# Altium schematic symbol library SM-LP-5001.SchLib: 1 symbol
Pins are listed as number, name and electrical type; pins without a type are passive.

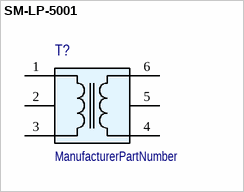
[diagram p0: symbol SM-LP-5001]

## SM-LP-5001
designator T?  (value not drawn)
ManufacturerPartNumber: ManufacturerPartNumber
pins: 1, 2, 3, 4, 5, 6